# EAGLE library part MAX518 (library maxim-dac_rev2)
MAX518 Dual I²C-8bit-DA-Converter - created by Mario Blunk - electronics & IT engineering at www.train-z.de
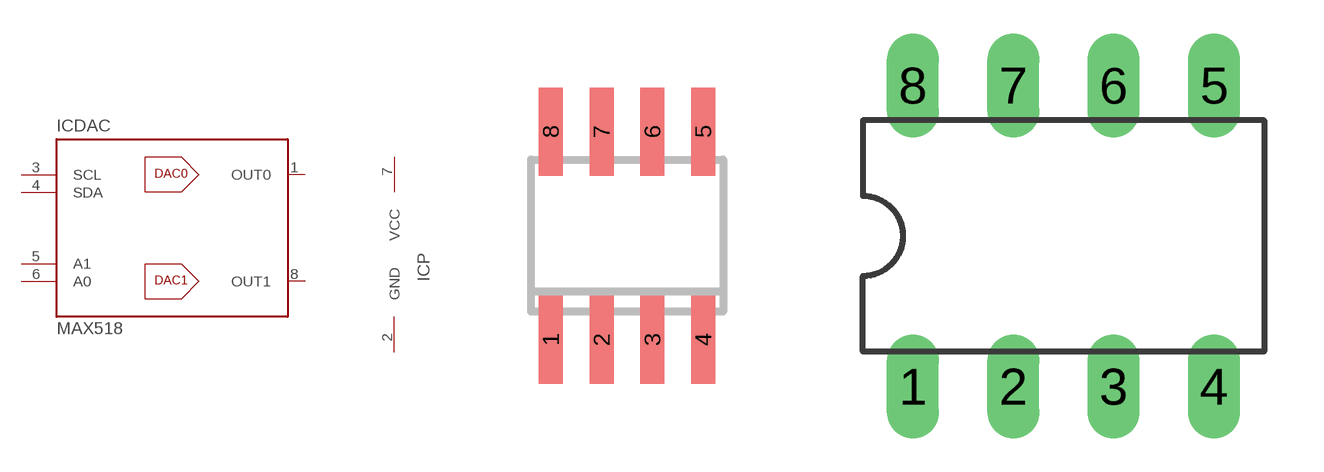
[diagram p1: symbol with the pads of SO08; footprints SO08, DIL08]

Designator prefix IC; gates P=PWR DAC=MAX518

## MAX518SO  [SO08]
1  DAC:OUT0  out
2  P:GND  pwr
3  DAC:SCL
4  DAC:SDA
5  DAC:A1  in
6  DAC:A0  in
7  P:VCC  pwr
8  DAC:OUT1  out

## MAX518DIP  [DIL08]
Pads as for SO08

## Footprint SO08 (pad centres in mm)
SMALL OUTLINE INTEGRATED CIRCUIT body 3.9 mm/JEDEC MS-012AA
smd 0.6 x 2.2: 1 -1.905,-2.6; 2 -0.635,-2.6; 3 0.635,-2.6; 4 1.905,-2.6; 5 1.905,2.6; 6 0.635,2.6; 7 -0.635,2.6; 8 -1.905,2.6

## Footprint DIL08 (pad centres in mm)
drill 0.813 long: 1 -3.81,-3.81; 2 -1.27,-3.81; 3 1.27,-3.81; 4 3.81,-3.81; 5 3.81,3.81; 6 1.27,3.81; 7 -1.27,3.81; 8 -3.81,3.81